# Altium footprint library Connectors Rectangular 4.20 MiniFit.PcbLib: 12 footprints
Each footprint in its own frame and in the unit in brackets; x right, y up, seen from the top. Pads: shape width x height; smd on the part's side, far side on the other; paste and mask are expansions set on the pad; w line width, h text height; cw(c..) or ccw(c..) is an arc to the next point about the centre after c.
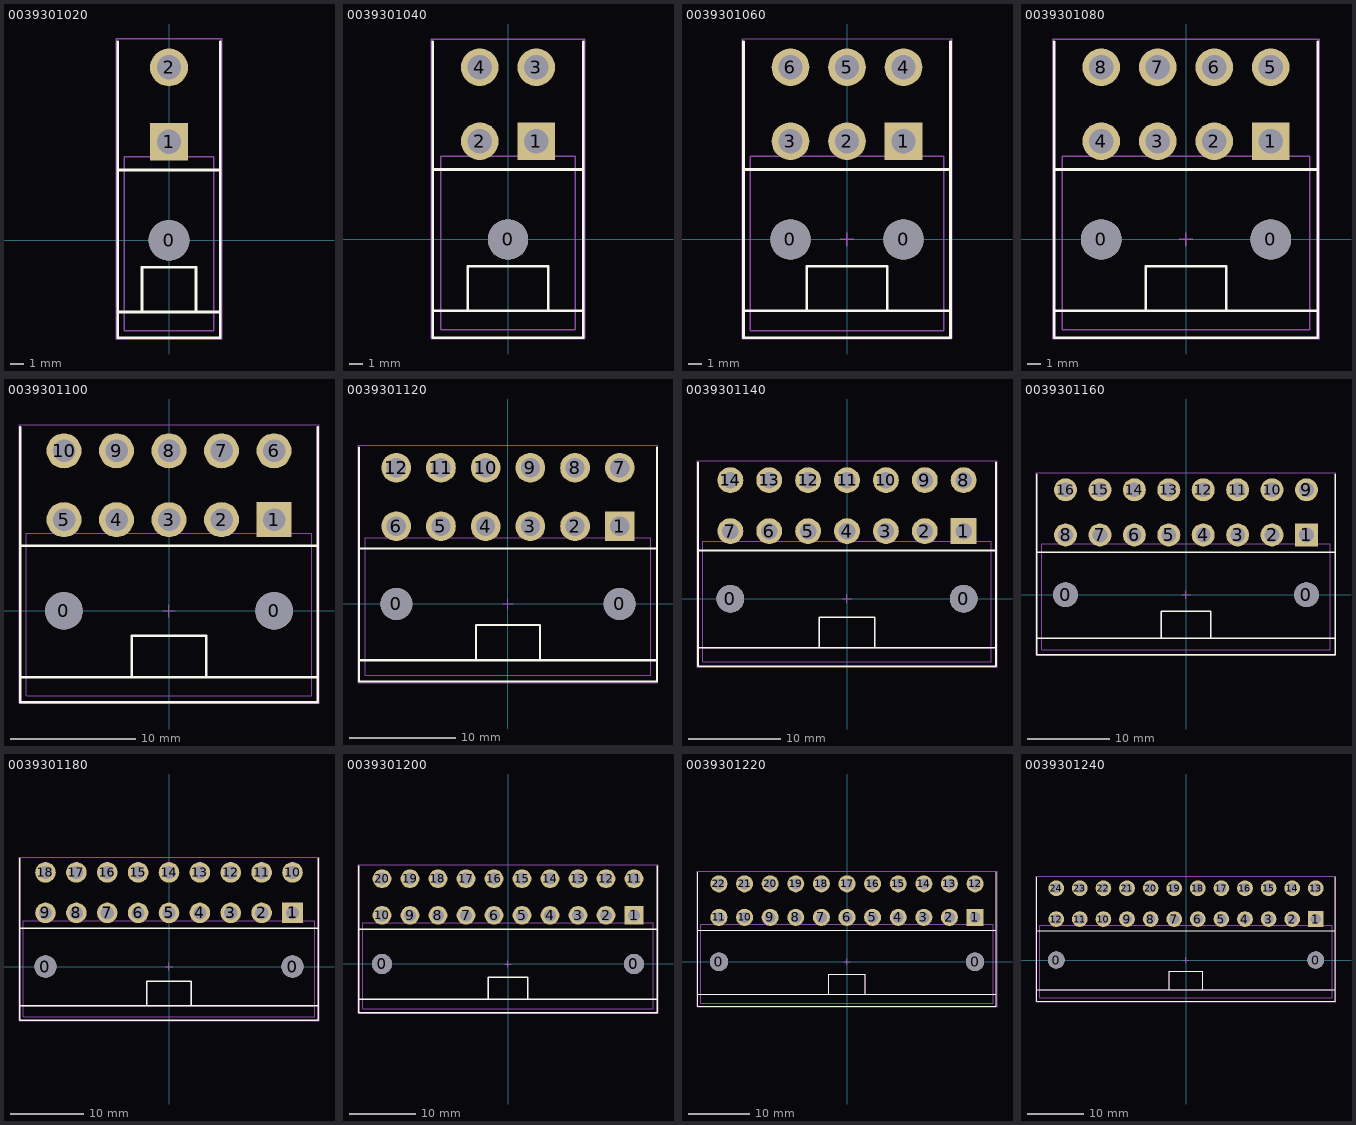
[diagram p0: the footprints below, top view; thin cyan lines are the x and y axes]

## 0039301020 [mm]
height 9.6
pads (3):
  round 3 hole 3 unplated paste+0 mask+0.102: 0(0,0)
  rect 2.8x2.8 hole 1.8: 1(0,7.3)
  round 2.8 hole 1.8: 2(0,12.8)
Top Overlay:
  lines w0.2: -3.8,-5.3 3.8,-5.3 ; -3.8,5.2 3.8,5.2 ; -3.8,14.7 -3.8,-7.2 3.8,-7.2 3.8,14.7 ; -2,-5.3 -2,-2 2,-2 2,-5.3
Top Package:
  circle w0.1: c0,7.3 r0.8
  circle w0.1: c0,12.8 r0.8
  circle w0.1: c0,0 r1.4
  lines w0.1: -3.3,-5.3 3.3,-5.3 ; -2,-5.3 -2,-2 2,-2 2,-5.3 ; -3.3,-6.7 3.3,-6.7 3.3,6.2 -3.3,6.2 -3.3,-6.7
Top Comment:
  text ".Comment" at -2.84,2.348 h2
Top Designator:
  text ".Designator" at -6.022,2.184 h3.5
Top Border:
  lines w0.1: -0.5,0 0.5,0 ; 0,-0.5 0,0.5 ; -3.9,-7.3 -3.9,14.9 3.9,14.9 3.9,-7.3 -3.9,-7.3
3D body "6002.stp": height 11.5, standoff -3.2, extent -3.3,-6.667 3.3,13.267

## 0039301040 [mm]
height 9.6
pads (5):
  round 3 hole 3 unplated paste+0 mask+0.102: 0(0,0)
  rect 2.8x2.8 hole 1.8: 1(2.1,7.3)
  round 2.8 hole 1.8: 2(-2.1,7.3) 3(2.1,12.8) 4(-2.1,12.8)
Top Overlay:
  lines w0.2: -5.6,-5.3 5.6,-5.3 ; -5.6,5.2 5.6,5.2 ; -5.6,14.7 -5.6,-7.3 5.6,-7.3 5.6,14.7 ; -3,-5.3 -3,-2 3,-2 3,-5.3
Top Package:
  circle w0.1: c0,0 r1.4
  circle w0.1: c-2.1,7.3 r0.8
  circle w0.1: c-2.1,12.8 r0.8
  circle w0.1: c2.1,7.3 r0.8
  circle w0.1: c2.1,12.8 r0.8
  lines w0.1: -5,-5.3 5,-5.3 ; -3,-5.3 -3,-2 3,-2 3,-5.3 ; -5,-6.7 -5,6.2 5,6.2 5,-6.7 -5,-6.7
Top Comment:
  text ".Comment" at -3.548,2.185 h2.5
Top Designator:
  text ".Designator" at -6.022,2.184 h3.5
Top Border:
  lines w0.1: -0.5,0 0.5,0 ; 0,-0.5 0,0.5 ; -5.7,-7.4 5.7,-7.4 5.7,14.9 -5.7,14.9 -5.7,-7.4
3D body "39-30-1040.stp": height 11.5, standoff -3.5, extent -5,-6.7 5,13.235

## 0039301060 [mm]
height 9.6
pads (8):
  round 3 hole 3 unplated paste+0 mask+0.102: 0(-4.2,0) 0(4.2,0)
  rect 2.8x2.8 hole 1.8: 1(4.2,7.3)
  round 2.8 hole 1.8: 2(0,7.3) 3(-4.2,7.3) 4(4.2,12.8) 5(0,12.8) 6(-4.2,12.8)
Top Overlay:
  lines w0.2: -7.7,-5.3 7.7,-5.3 ; -7.7,5.2 7.7,5.2 ; -7.7,14.7 -7.7,-7.3 7.7,-7.3 7.7,14.7 ; -3,-5.3 -3,-2 3,-2 3,-5.3
Top Package:
  circle w0.1: c-4.2,7.3 r0.8
  circle w0.1: c0,7.3 r0.8
  circle w0.1: c0,12.8 r0.8
  circle w0.1: c-4.2,12.8 r0.8
  circle w0.1: c4.2,12.8 r0.8
  circle w0.1: c4.2,7.3 r0.8
  circle w0.1: c-4.2,0 r1.4
  circle w0.1: c4.2,0 r1.4
  lines w0.1: -7.2,-5.3 7.2,-5.3 ; -3,-5.3 -3,-2 3,-2 3,-5.3 ; -7.2,-6.8 -7.2,6.2 7.2,6.2 7.2,-6.8 -7.2,-6.8
Top Comment:
  text ".Comment" at -4.966,1.86 h3.5
Top Designator:
  text ".Designator" at -6.022,2.184 h3.5
Top Border:
  lines w0.1: -0.5,0 0.5,0 ; 0,-0.5 0,0.5 ; -7.8,-7.4 7.8,-7.4 7.8,14.9 -7.8,14.9 -7.8,-7.4
3D body "39-30-1060.stp": height 11.5, standoff -3.5, extent -7.1,-6.7 7.1,13.235

## 0039301080 [mm]
height 9.6
pads (10):
  round 3 hole 3 unplated paste+0 mask+0.102: 0(-6.3,0) 0(6.3,0)
  rect 2.8x2.8 hole 1.8: 1(6.3,7.3)
  round 2.8 hole 1.8: 2(2.1,7.3) 3(-2.1,7.3) 4(-6.3,7.3) 5(6.3,12.8) 6(2.1,12.8) 7(-2.1,12.8) 8(-6.3,12.8)
Top Overlay:
  lines w0.2: -9.8,-5.3 9.8,-5.3 ; -9.8,5.2 9.8,5.2 ; -9.8,14.7 -9.8,-7.3 9.8,-7.3 9.8,14.7 ; -3,-5.3 -3,-2 3,-2 3,-5.3
Top Package:
  circle w0.1: c-2.1,7.3 r0.8
  circle w0.1: c-6.3,7.3 r0.8
  circle w0.1: c2.1,7.3 r0.8
  circle w0.1: c2.1,12.8 r0.8
  circle w0.1: c-6.3,12.8 r0.8
  circle w0.1: c-2.1,12.8 r0.8
  circle w0.1: c6.3,7.3 r0.8
  circle w0.1: c6.3,12.8 r0.8
  circle w0.1: c-6.3,0 r1.4
  circle w0.1: c6.3,0 r1.4
  lines w0.1: -9.2,-5.3 9.2,-5.3 ; -3,-5.3 -3,-2 3,-2 3,-5.3 ; -9.2,-6.7 -9.2,6.2 9.2,6.2 9.2,-6.7 -9.2,-6.7
Top Comment:
  text ".Comment" at -4.966,1.86 h3.5
Top Designator:
  text ".Designator" at -6.022,2.184 h3.5
Top Border:
  lines w0.1: -0.5,0 0.5,0 ; 0,-0.5 0,0.5 ; -9.9,-7.4 9.9,-7.4 9.9,14.9 -9.9,14.9 -9.9,-7.4
3D body "39-30-1080.stp": height 11.5, standoff -3.5, extent -9.2,-6.7 9.2,13.235

## 0039301100 [mm]
height 9.6
pads (12):
  round 3 hole 3 unplated paste+0 mask+0.102: 0(-8.4,0) 0(8.4,0)
  rect 2.8x2.8 hole 1.8: 1(8.4,7.3)
  round 2.8 hole 1.8: 2(4.2,7.3) 3(0,7.3) 4(-4.2,7.3) 5(-8.4,7.3) 6(8.4,12.8) 7(4.2,12.8) 8(0,12.8) 9(-4.2,12.8) 10(-8.4,12.8)
Top Overlay:
  lines w0.2: -11.9,-5.3 11.9,-5.3 ; -11.9,5.2 11.9,5.2 ; -11.9,14.7 -11.9,-7.3 11.9,-7.3 11.9,14.7 ; -3,-5.3 -3,-2 3,-2 3,-5.3
Top Package:
  circle w0.1: c8.4,0 r1.4
  circle w0.1: c-8.4,0 r1.4
  circle w0.1: c0,7.3 r0.8
  circle w0.1: c-4.2,7.3 r0.8
  circle w0.1: c4.2,7.3 r0.8
  circle w0.1: c-8.4,7.3 r0.8
  circle w0.1: c-8.4,12.8 r0.8
  circle w0.1: c4.2,12.8 r0.8
  circle w0.1: c-4.2,12.8 r0.8
  circle w0.1: c0,12.8 r0.8
  circle w0.1: c8.4,12.8 r0.8
  circle w0.1: c8.4,7.3 r0.8
  lines w0.1: -11.4,-5.3 11.4,-5.3 ; -3,-5.3 -3,-2 3,-2 3,-5.3 ; -11.4,-6.8 -11.4,6.2 11.4,6.2 11.4,-6.8 -11.4,-6.8
Top Comment:
  text ".Comment" at -4.966,0.86 h3.5
Top Designator:
  text ".Designator" at -6.022,1.184 h3.5
Top Border:
  lines w0.1: -0.5,0 0.5,0 ; 0,-0.5 0,0.5 ; -12,-7.4 12,-7.4 12,14.9 -12,14.9 -12,-7.4
3D body "39-30-1100.stp": height 11.5, standoff -3.5, extent -11.3,-6.7 11.3,13.235

## 0039301120 [mm]
height 9.6
pads (14):
  round 3 hole 3 unplated paste+0 mask+0.102: 0(-10.5,0) 0(10.5,0)
  rect 2.8x2.8 hole 1.8: 1(10.5,7.3)
  round 2.8 hole 1.8: 2(6.3,7.3) 3(2.1,7.3) 4(-2.1,7.3) 5(-6.3,7.3) 6(-10.5,7.3) 7(10.5,12.8) 8(6.3,12.8) 9(2.1,12.8) 10(-2.1,12.8) 11(-6.3,12.8) 12(-10.5,12.8)
Top Overlay:
  lines w0.2: -14,-5.3 14,-5.3 ; -14,5.2 14,5.2 ; -14,14.7 -14,-7.3 14,-7.3 14,14.7 ; -3,-5.3 -3,-2 3,-2 3,-5.3
Top Package:
  circle w0.1: c2.1,7.3 r0.8
  circle w0.1: c-2.1,7.3 r0.8
  circle w0.1: c6.3,7.3 r0.8
  circle w0.1: c-6.3,7.3 r0.8
  circle w0.1: c-10.5,7.3 r0.8
  circle w0.1: c-10.5,12.8 r0.8
  circle w0.1: c-6.3,12.8 r0.8
  circle w0.1: c6.3,12.8 r0.8
  circle w0.1: c-2.1,12.8 r0.8
  circle w0.1: c2.1,12.8 r0.8
  circle w0.1: c10.5,7.3 r0.8
  circle w0.1: c10.5,12.8 r0.8
  circle w0.1: c-10.5,0 r1.4
  circle w0.1: c10.5,0 r1.4
  lines w0.1: -13.4,-5.3 13.4,-5.3 ; -3,-5.3 -3,-2 3,-2 3,-5.3 ; -13.4,-6.7 -13.4,6.2 13.4,6.2 13.4,-6.7 -13.4,-6.7
Top Comment:
  text ".Comment" at -4.966,0.86 h3.5
Top Designator:
  text ".Designator" at -6.022,1.184 h3.5
Top Border:
  lines w0.1: -0.5,0 0.5,0 ; 0,-0.5 0,0.5 ; -14.1,-7.4 14.1,-7.4 14.1,14.9 -14.1,14.9 -14.1,-7.4
3D body "39-30-1120.stp": height 11.5, standoff -3.5, extent -13.4,-6.7 13.4,13.235

## 0039301140 [mm]
height 9.6
pads (16):
  round 3 hole 3 unplated paste+0 mask+0.102: 0(-12.6,0) 0(12.6,0)
  rect 2.8x2.8 hole 1.8: 1(12.6,7.3)
  round 2.8 hole 1.8: 2(8.4,7.3) 3(4.2,7.3) 4(0,7.3) 5(-4.2,7.3) 6(-8.4,7.3) 7(-12.6,7.3) 8(12.6,12.8) 9(8.4,12.8) 10(4.2,12.8) 11(0,12.8) 12(-4.2,12.8) 13(-8.4,12.8) 14(-12.6,12.8)
Top Overlay:
  lines w0.2: -16.1,-5.3 16.1,-5.3 ; -16.1,5.2 16.1,5.2 ; -16.1,14.7 -16.1,-7.3 16.1,-7.3 16.1,14.7 ; -3,-5.3 -3,-2 3,-2 3,-5.3
Top Package:
  circle w0.1: c12.6,7.3 r0.8
  circle w0.1: c12.6,12.8 r0.8
  circle w0.1: c4.2,12.8 r0.8
  circle w0.1: c0,12.8 r0.8
  circle w0.1: c8.4,12.8 r0.8
  circle w0.1: c-4.2,12.8 r0.8
  circle w0.1: c-8.4,12.8 r0.8
  circle w0.1: c-12.6,12.8 r0.8
  circle w0.1: c-12.6,7.3 r0.8
  circle w0.1: c-8.4,7.3 r0.8
  circle w0.1: c-4.2,7.3 r0.8
  circle w0.1: c8.4,7.3 r0.8
  circle w0.1: c0,7.3 r0.8
  circle w0.1: c4.2,7.3 r0.8
  circle w0.1: c-12.6,0 r1.4
  circle w0.1: c12.6,0 r1.4
  lines w0.1: -15.6,-5.3 15.6,-5.3 ; -3,-5.3 -3,-2 3,-2 3,-5.3 ; -15.6,-6.8 15.6,-6.8 15.6,6.2 -15.6,6.2 -15.6,-6.8
Top Comment:
  text ".Comment" at -4.966,0.86 h3.5
Top Designator:
  text ".Designator" at -6.022,1.184 h3.5
Top Border:
  lines w0.1: -0.5,0 0.5,0 ; 0,-0.5 0,0.5 ; -16.2,-7.4 -16.2,14.9 16.2,14.9 16.2,-7.4 -16.2,-7.4
3D body "39-30-1140.stp": height 11.5, standoff -3.5, extent -15.5,-6.7 15.5,13.235

## 0039301160 [mm]
height 9.6
pads (18):
  round 3 hole 3 unplated paste+0 mask+0.102: 0(-14.7,0) 0(14.7,0)
  rect 2.8x2.8 hole 1.8: 1(14.7,7.3)
  round 2.8 hole 1.8: 2(10.5,7.3) 3(6.3,7.3) 4(2.1,7.3) 5(-2.1,7.3) 6(-6.3,7.3) 7(-10.5,7.3) 8(-14.7,7.3) 9(14.7,12.8) 10(10.5,12.8) 11(6.3,12.8) 12(2.1,12.8) 13(-2.1,12.8) 14(-6.3,12.8) 15(-10.5,12.8) 16(-14.7,12.8)
Top Overlay:
  lines w0.2: -18.2,-5.3 18.2,-5.3 ; -18.2,5.2 18.2,5.2 ; -18.2,14.7 -18.2,-7.3 18.2,-7.3 18.2,14.7 ; -3,-5.3 -3,-2 3,-2 3,-5.3
Top Package:
  circle w0.1: c6.3,7.3 r0.8
  circle w0.1: c2.1,7.3 r0.8
  circle w0.1: c10.5,7.3 r0.8
  circle w0.1: c-2.1,7.3 r0.8
  circle w0.1: c-6.3,7.3 r0.8
  circle w0.1: c-10.5,7.3 r0.8
  circle w0.1: c-10.5,12.8 r0.8
  circle w0.1: c-6.3,12.8 r0.8
  circle w0.1: c-2.1,12.8 r0.8
  circle w0.1: c10.5,12.8 r0.8
  circle w0.1: c2.1,12.8 r0.8
  circle w0.1: c6.3,12.8 r0.8
  circle w0.1: c-14.7,7.3 r0.8
  circle w0.1: c-14.7,12.8 r0.8
  circle w0.1: c14.7,7.3 r0.8
  circle w0.1: c14.7,12.8 r0.8
  circle w0.1: c-14.7,0 r1.4
  circle w0.1: c14.7,0 r1.4
  lines w0.1: -17.6,-5.3 17.6,-5.3 ; -3,-5.3 -3,-2 3,-2 3,-5.3 ; -17.6,-6.7 -17.6,6.2 17.6,6.2 17.6,-6.7 -17.6,-6.7
Top Comment:
  text ".Comment" at -4.966,0.86 h3.5
Top Designator:
  text ".Designator" at -6.022,1.184 h3.5
Top Border:
  lines w0.1: -0.5,0 0.5,0 ; 0,-0.5 0,0.5 ; -18.3,-7.4 18.3,-7.4 18.3,14.9 -18.3,14.9 -18.3,-7.4
3D body "39-30-1160.stp": height 11.5, standoff -3.5, extent -17.6,-6.7 17.6,13.235

## 0039301180 [mm]
height 9.6
pads (20):
  round 3 hole 3 unplated paste+0 mask+0.102: 0(-16.8,0) 0(16.8,0)
  rect 2.8x2.8 hole 1.8: 1(16.8,7.3)
  round 2.8 hole 1.8: 2(12.6,7.3) 3(8.4,7.3) 4(4.2,7.3) 5(0,7.3) 6(-4.2,7.3) 7(-8.4,7.3) 8(-12.6,7.3) 9(-16.8,7.3) 10(16.8,12.8) 11(12.6,12.8) 12(8.4,12.8) 13(4.2,12.8) 14(0,12.8) 15(-4.2,12.8) 16(-8.4,12.8) 17(-12.6,12.8) 18(-16.8,12.8)
Top Overlay:
  lines w0.2: -20.3,-5.3 20.3,-5.3 ; -20.3,5.2 20.3,5.2 ; -20.3,14.7 -20.3,-7.3 20.3,-7.3 20.3,14.7 ; -3,-5.3 -3,-2 3,-2 3,-5.3
Top Package:
  circle w0.1: c16.8,0 r1.4
  circle w0.1: c-16.8,0 r1.4
  circle w0.1: c-12.6,7.3 r0.8
  circle w0.1: c-12.6,12.8 r0.8
  circle w0.1: c-16.8,12.8 r0.8
  circle w0.1: c-16.8,7.3 r0.8
  circle w0.1: c8.4,7.3 r0.8
  circle w0.1: c4.2,7.3 r0.8
  circle w0.1: c12.6,7.3 r0.8
  circle w0.1: c0,7.3 r0.8
  circle w0.1: c-4.2,7.3 r0.8
  circle w0.1: c-8.4,7.3 r0.8
  circle w0.1: c-8.4,12.8 r0.8
  circle w0.1: c-4.2,12.8 r0.8
  circle w0.1: c0,12.8 r0.8
  circle w0.1: c12.6,12.8 r0.8
  circle w0.1: c4.2,12.8 r0.8
  circle w0.1: c8.4,12.8 r0.8
  circle w0.1: c16.8,12.8 r0.8
  circle w0.1: c16.8,7.3 r0.8
  lines w0.1: -19.8,-5.3 19.8,-5.3 ; -3,-5.3 -3,-2 3,-2 3,-5.3 ; -19.8,-6.8 -19.8,6.2 19.8,6.2 19.8,-6.8 -19.8,-6.8
Top Comment:
  text ".Comment" at -4.966,0.86 h3.5
Top Designator:
  text ".Designator" at -6.022,1.184 h3.5
Top Border:
  lines w0.1: -0.5,0 0.5,0 ; 0,-0.5 0,0.5 ; -20.4,-7.4 20.4,-7.4 20.4,14.9 -20.4,14.9 -20.4,-7.4
3D body "39-30-1180.stp": height 11.5, standoff -3.5, extent -19.7,-6.7 19.7,13.235

## 0039301200 [mm]
height 9.6
pads (22):
  round 3 hole 3 unplated paste+0 mask+0.102: 0(-18.9,0) 0(18.9,0)
  rect 2.8x2.8 hole 1.8: 1(18.9,7.3)
  round 2.8 hole 1.8: 2(14.7,7.3) 3(10.5,7.3) 4(6.3,7.3) 5(2.1,7.3) 6(-2.1,7.3) 7(-6.3,7.3) 8(-10.5,7.3) 9(-14.7,7.3) 10(-18.9,7.3) 11(18.9,12.8) 12(14.7,12.8) 13(10.5,12.8) 14(6.3,12.8) 15(2.1,12.8) 16(-2.1,12.8) 17(-6.3,12.8) 18(-10.5,12.8) 19(-14.7,12.8) 20(-18.9,12.8)
Top Overlay:
  lines w0.2: -22.4,-5.3 22.4,-5.3 ; -22.4,5.2 22.4,5.2 ; -22.4,14.7 -22.4,-7.3 22.4,-7.3 22.4,14.7 ; -3,-5.3 -3,-2 3,-2 3,-5.3
Top Package:
  circle w0.1: c18.9,0 r1.4
  circle w0.1: c-18.9,0 r1.4
  circle w0.1: c18.9,12.8 r0.8
  circle w0.1: c18.9,7.3 r0.8
  circle w0.1: c-14.7,7.3 r0.8
  circle w0.1: c-14.7,12.8 r0.8
  circle w0.1: c-18.9,7.3 r0.8
  circle w0.1: c-18.9,12.8 r0.8
  circle w0.1: c-10.5,12.8 r0.8
  circle w0.1: c-10.5,7.3 r0.8
  circle w0.1: c10.5,12.8 r0.8
  circle w0.1: c6.3,12.8 r0.8
  circle w0.1: c14.7,12.8 r0.8
  circle w0.1: c2.1,12.8 r0.8
  circle w0.1: c-2.1,12.8 r0.8
  circle w0.1: c-6.3,12.8 r0.8
  circle w0.1: c-6.3,7.3 r0.8
  circle w0.1: c-2.1,7.3 r0.8
  circle w0.1: c2.1,7.3 r0.8
  circle w0.1: c14.7,7.3 r0.8
  circle w0.1: c6.3,7.3 r0.8
  circle w0.1: c10.5,7.3 r0.8
  lines w0.1: -21.8,-5.3 21.8,-5.3 ; -3,-5.3 -3,-2 3,-2 3,-5.3 ; -21.8,-6.7 21.8,-6.7 21.8,6.2 -21.8,6.2 -21.8,-6.7
Top Comment:
  text ".Comment" at -4.966,0.86 h3.5
Top Designator:
  text ".Designator" at -6.022,1.184 h3.5
Top Border:
  lines w0.1: -0.5,0 0.5,0 ; 0,-0.5 0,0.5 ; -22.5,-7.4 -22.5,14.9 22.5,14.9 22.5,-7.4 -22.5,-7.4
3D body "39-30-1200.stp": height 11.5, standoff -3.5, extent -21.8,-6.7 21.8,13.235

## 0039301220 [mm]
height 9.6
pads (24):
  round 3 hole 3 unplated paste+0 mask+0.102: 0(-21,0) 0(21,0)
  rect 2.8x2.8 hole 1.8: 1(21,7.3)
  round 2.8 hole 1.8: 2(16.8,7.3) 3(12.6,7.3) 4(8.4,7.3) 5(4.2,7.3) 6(0,7.3) 7(-4.2,7.3) 8(-8.4,7.3) 9(-12.6,7.3) 10(-16.8,7.3) 11(-21,7.3) 12(21,12.8) 13(16.8,12.8) 14(12.6,12.8) 15(8.4,12.8) 16(4.2,12.8) 17(0,12.8) 18(-4.2,12.8) 19(-8.4,12.8) 20(-12.6,12.8) 21(-16.8,12.8) 22(-21,12.8)
Top Overlay:
  lines w0.2: -24.5,-5.3 24.5,-5.3 ; -24.5,5.2 24.5,5.2 ; -24.5,14.7 -24.5,-7.3 24.5,-7.3 24.5,14.7 ; -3,-5.3 -3,-2 3,-2 3,-5.3
Top Package:
  circle w0.1: c21,0 r1.4
  circle w0.1: c-21,0 r1.4
  circle w0.1: c-21,7.3 r0.8
  circle w0.1: c-21,12.8 r0.8
  circle w0.1: c-12.6,7.3 r0.8
  circle w0.1: c-12.6,12.8 r0.8
  circle w0.1: c-16.8,7.3 r0.8
  circle w0.1: c-16.8,12.8 r0.8
  circle w0.1: c21,7.3 r0.8
  circle w0.1: c21,12.8 r0.8
  circle w0.1: c-8.4,12.8 r0.8
  circle w0.1: c-8.4,7.3 r0.8
  circle w0.1: c12.6,12.8 r0.8
  circle w0.1: c8.4,12.8 r0.8
  circle w0.1: c16.8,12.8 r0.8
  circle w0.1: c4.2,12.8 r0.8
  circle w0.1: c0,12.8 r0.8
  circle w0.1: c-4.2,12.8 r0.8
  circle w0.1: c-4.2,7.3 r0.8
  circle w0.1: c0,7.3 r0.8
  circle w0.1: c4.2,7.3 r0.8
  circle w0.1: c16.8,7.3 r0.8
  circle w0.1: c8.4,7.3 r0.8
  circle w0.1: c12.6,7.3 r0.8
  lines w0.1: -24,-5.3 24,-5.3 ; -3,-5.3 -3,-2 3,-2 3,-5.3 ; -24,-6.8 24,-6.8 24,6.2 -24,6.2 -24,-6.8
Top Comment:
  text ".Comment" at -4.966,0.86 h3.5
Top Designator:
  text ".Designator" at -6.022,1.184 h3.5
Top Border:
  lines w0.1: -0.5,0 0.5,0 ; 0,-0.5 0,0.5 ; -24.6,-7.4 -24.6,14.9 24.6,14.9 24.6,-7.4 -24.6,-7.4
3D body "39-30-1220.stp": height 11.5, standoff -3.5, extent -23.9,-6.7 23.9,13.235

## 0039301240 [mm]
height 9.6
pads (26):
  round 3 hole 3 unplated paste+0 mask+0.102: 0(-23.1,0) 0(23.1,0)
  rect 2.8x2.8 hole 1.8: 1(23.1,7.3)
  round 2.8 hole 1.8: 2(18.9,7.3) 3(14.7,7.3) 4(10.5,7.3) 5(6.3,7.3) 6(2.1,7.3) 7(-2.1,7.3) 8(-6.3,7.3) 9(-10.5,7.3) 10(-14.7,7.3) 11(-18.9,7.3) 12(-23.1,7.3) 13(23.1,12.8) 14(18.9,12.8) 15(14.7,12.8) 16(10.5,12.8) 17(6.3,12.8) 18(2.1,12.8) 19(-2.1,12.8) 20(-6.3,12.8) 21(-10.5,12.8) 22(-14.7,12.8) 23(-18.9,12.8) 24(-23.1,12.8)
Top Overlay:
  lines w0.2: -26.6,-5.3 26.6,-5.3 ; -26.6,5.2 26.6,5.2 ; -26.6,14.7 -26.6,-7.3 26.6,-7.3 26.6,14.7 ; -3,-5.3 -3,-2 3,-2 3,-5.3
Top Package:
  circle w0.1: c14.7,7.3 r0.8
  circle w0.1: c10.5,7.3 r0.8
  circle w0.1: c18.9,7.3 r0.8
  circle w0.1: c6.3,7.3 r0.8
  circle w0.1: c2.1,7.3 r0.8
  circle w0.1: c-2.1,7.3 r0.8
  circle w0.1: c-2.1,12.8 r0.8
  circle w0.1: c2.1,12.8 r0.8
  circle w0.1: c6.3,12.8 r0.8
  circle w0.1: c18.9,12.8 r0.8
  circle w0.1: c10.5,12.8 r0.8
  circle w0.1: c14.7,12.8 r0.8
  circle w0.1: c-6.3,7.3 r0.8
  circle w0.1: c-6.3,12.8 r0.8
  circle w0.1: c23.1,12.8 r0.8
  circle w0.1: c23.1,7.3 r0.8
  circle w0.1: c-14.7,12.8 r0.8
  circle w0.1: c-14.7,7.3 r0.8
  circle w0.1: c-10.5,12.8 r0.8
  circle w0.1: c-10.5,7.3 r0.8
  circle w0.1: c-23.1,12.8 r0.8
  circle w0.1: c-23.1,7.3 r0.8
  circle w0.1: c-18.9,12.8 r0.8
  circle w0.1: c-18.9,7.3 r0.8
  circle w0.1: c-23.1,0 r1.4
  circle w0.1: c23.1,0 r1.4
  lines w0.1: -26,-5.3 26,-5.3 ; -3,-5.3 -3,-2 3,-2 3,-5.3 ; -26,-6.7 -26,6.2 26,6.2 26,-6.7 -26,-6.7
Top Comment:
  text ".Comment" at -4.966,0.86 h3.5
Top Designator:
  text ".Designator" at -6.022,1.184 h3.5
Top Border:
  lines w0.1: -0.5,0 0.5,0 ; 0,-0.5 0,0.5 ; -26.7,-7.4 26.7,-7.4 26.7,14.9 -26.7,14.9 -26.7,-7.4
3D body "39-30-1240.stp": height 11.5, standoff -3.5, extent -26,-6.7 26,13.235